# Altium schematic symbol library MyLib.SchLib: 4 symbols
Pins are listed as number, name and electrical type; pins without a type are passive.

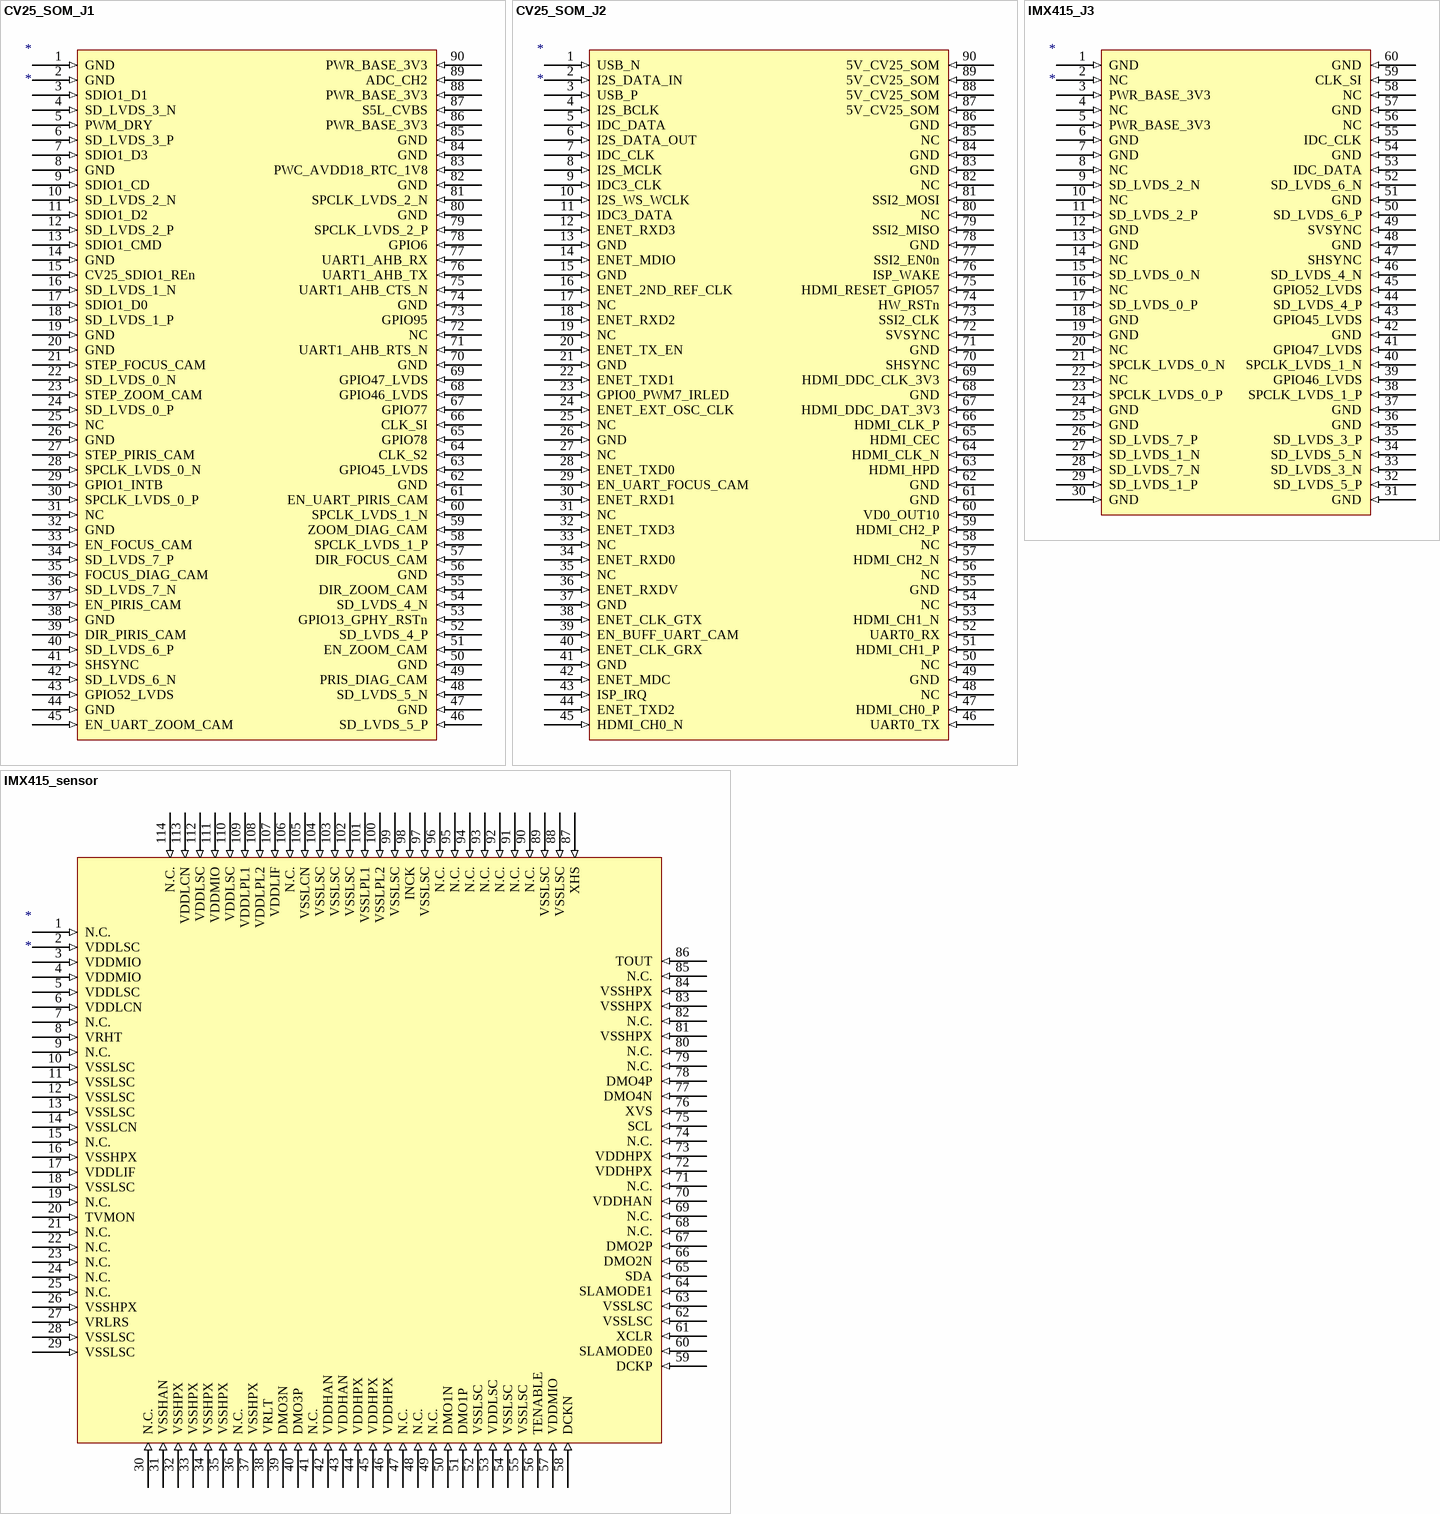
[diagram p0: symbols CV25_SOM_J1 to IMX415_sensor]

## CV25_SOM_J1
designator *
footprint HIROSE_DF40C-90DS-0.4V(51)
pins: 1 GND (in), 2 GND (in), 3 SDIO1_D1 (in), 4 SD_LVDS_3_N (in), 5 PWM_DRY (in), 6 SD_LVDS_3_P (in), 7 SDIO1_D3 (in), 8 GND (in), 9 SDIO1_CD (in), 10 SD_LVDS_2_N (in), 11 SDIO1_D2 (in), 12 SD_LVDS_2_P (in), 13 SDIO1_CMD (in), 14 GND (in), 15 CV25_SDIO1_REn (in), 16 SD_LVDS_1_N (in), 17 SDIO1_D0 (in), 18 SD_LVDS_1_P (in), 19 GND (in), 20 GND (in), 21 STEP_FOCUS_CAM (in), 22 SD_LVDS_0_N (in), 23 STEP_ZOOM_CAM (in), 24 SD_LVDS_0_P (in), 25 NC (in), 26 GND (in), 27 STEP_PIRIS_CAM (in), 28 SPCLK_LVDS_0_N (in), 29 GPIO1_INTB (in), 30 SPCLK_LVDS_0_P (in), 31 NC (in), 32 GND (in), 33 EN_FOCUS_CAM (in), 34 SD_LVDS_7_P (in), 35 FOCUS_DIAG_CAM (in), 36 SD_LVDS_7_N (in), 37 EN_PIRIS_CAM (in), 38 GND (in), 39 DIR_PIRIS_CAM (in), 40 SD_LVDS_6_P (in), 41 SHSYNC (in), 42 SD_LVDS_6_N (in), 43 GPIO52_LVDS (in), 44 GND (in), 45 EN_UART_ZOOM_CAM (in), 46 SD_LVDS_5_P (in), 47 GND (in), 48 SD_LVDS_5_N (in), 49 PRIS_DIAG_CAM (in), 50 GND (in), 51 EN_ZOOM_CAM (in), 52 SD_LVDS_4_P (in), 53 GPIO13_GPHY_RSTn (in), 54 SD_LVDS_4_N (in), 55 DIR_ZOOM_CAM (in), 56 GND (in), 57 DIR_FOCUS_CAM (in), 58 SPCLK_LVDS_1_P (in), 59 ZOOM_DIAG_CAM (in), 60 SPCLK_LVDS_1_N (in), 61 EN_UART_PIRIS_CAM (in), 62 GND (in), 63 GPIO45_LVDS (in), 64 CLK_S2 (in), 65 GPIO78 (in), 66 CLK_SI (in), 67 GPIO77 (in), 68 GPIO46_LVDS (in), 69 GPIO47_LVDS (in), 70 GND (in), 71 UART1_AHB_RTS_N (in), 72 NC (in), 73 GPIO95 (in), 74 GND (in), 75 UART1_AHB_CTS_N (in), 76 UART1_AHB_TX (in), 77 UART1_AHB_RX (in), 78 GPIO6 (in), 79 SPCLK_LVDS_2_P (in), 80 GND (in), 81 SPCLK_LVDS_2_N (in), 82 GND (in), 83 PWC_AVDD18_RTC_1V8 (in), 84 GND (in), 85 GND (in), 86 PWR_BASE_3V3 (in), 87 S5L_CVBS (in), 88 PWR_BASE_3V3 (in), 89 ADC_CH2 (in), 90 PWR_BASE_3V3 (in)

## CV25_SOM_J2
designator *
footprint HIROSE_DF40C-90DS-0.4V(51)
pins: 1 USB_N (in), 2 I2S_DATA_IN (in), 3 USB_P (in), 4 I2S_BCLK (in), 5 IDC_DATA (in), 6 I2S_DATA_OUT (in), 7 IDC_CLK (in), 8 I2S_MCLK (in), 9 IDC3_CLK (in), 10 I2S_WS_WCLK (in), 11 IDC3_DATA (in), 12 ENET_RXD3 (in), 13 GND (in), 14 ENET_MDIO (in), 15 GND (in), 16 ENET_2ND_REF_CLK (in), 17 NC (in), 18 ENET_RXD2 (in), 19 NC (in), 20 ENET_TX_EN (in), 21 GND (in), 22 ENET_TXD1 (in), 23 GPIO0_PWM7_IRLED (in), 24 ENET_EXT_OSC_CLK (in), 25 NC (in), 26 GND (in), 27 NC (in), 28 ENET_TXD0 (in), 29 EN_UART_FOCUS_CAM (in), 30 ENET_RXD1 (in), 31 NC (in), 32 ENET_TXD3 (in), 33 NC (in), 34 ENET_RXD0 (in), 35 NC (in), 36 ENET_RXDV (in), 37 GND (in), 38 ENET_CLK_GTX (in), 39 EN_BUFF_UART_CAM (in), 40 ENET_CLK_GRX (in), 41 GND (in), 42 ENET_MDC (in), 43 ISP_IRQ (in), 44 ENET_TXD2 (in), 45 HDMI_CH0_N (in), 46 UART0_TX (in), 47 HDMI_CH0_P (in), 48 NC (in), 49 GND (in), 50 NC (in), 51 HDMI_CH1_P (in), 52 UART0_RX (in), 53 HDMI_CH1_N (in), 54 NC (in), 55 GND (in), 56 NC (in), 57 HDMI_CH2_N (in), 58 NC (in), 59 HDMI_CH2_P (in), 60 VD0_OUT10 (in), 61 GND (in), 62 GND (in), 63 HDMI_HPD (in), 64 HDMI_CLK_N (in), 65 HDMI_CEC (in), 66 HDMI_CLK_P (in), 67 HDMI_DDC_DAT_3V3 (in), 68 GND (in), 69 HDMI_DDC_CLK_3V3 (in), 70 SHSYNC (in), 71 GND (in), 72 SVSYNC (in), 73 SSI2_CLK (in), 74 HW_RSTn (in), 75 HDMI_RESET_GPIO57 (in), 76 ISP_WAKE (in), 77 SSI2_EN0n (in), 78 GND (in), 79 SSI2_MISO (in), 80 NC (in), 81 SSI2_MOSI (in), 82 NC (in), 83 GND (in), 84 GND (in), 85 NC (in), 86 GND (in), 87 5V_CV25_SOM (in), 88 5V_CV25_SOM (in), 89 5V_CV25_SOM (in), 90 5V_CV25_SOM (in)

## IMX415_J3
designator *
footprint HRS_DF40HC(4.0)-60DS-0.4V(51)
pins: 1 GND (in), 2 NC (in), 3 PWR_BASE_3V3 (in), 4 NC (in), 5 PWR_BASE_3V3 (in), 6 GND (in), 7 GND (in), 8 NC (in), 9 SD_LVDS_2_N (in), 10 NC (in), 11 SD_LVDS_2_P (in), 12 GND (in), 13 GND (in), 14 NC (in), 15 SD_LVDS_0_N (in), 16 NC (in), 17 SD_LVDS_0_P (in), 18 GND (in), 19 GND (in), 20 NC (in), 21 SPCLK_LVDS_0_N (in), 22 NC (in), 23 SPCLK_LVDS_0_P (in), 24 GND (in), 25 GND (in), 26 SD_LVDS_7_P (in), 27 SD_LVDS_1_N (in), 28 SD_LVDS_7_N (in), 29 SD_LVDS_1_P (in), 30 GND (in), 31 GND (in), 32 SD_LVDS_5_P (in), 33 SD_LVDS_3_N (in), 34 SD_LVDS_5_N (in), 35 SD_LVDS_3_P (in), 36 GND (in), 37 GND (in), 38 SPCLK_LVDS_1_P (in), 39 GPIO46_LVDS (in), 40 SPCLK_LVDS_1_N (in), 41 GPIO47_LVDS (in), 42 GND (in), 43 GPIO45_LVDS (in), 44 SD_LVDS_4_P (in), 45 GPIO52_LVDS (in), 46 SD_LVDS_4_N (in), 47 SHSYNC (in), 48 GND (in), 49 SVSYNC (in), 50 SD_LVDS_6_P (in), 51 GND (in), 52 SD_LVDS_6_N (in), 53 IDC_DATA (in), 54 GND (in), 55 IDC_CLK (in), 56 NC (in), 57 GND (in), 58 NC (in), 59 CLK_SI (in), 60 GND (in)

## IMX415_sensor
designator *
footprint IMX415_sensor - duplicate
footprint IMX415_sensor - duplicate
pins: 1 N.C. (in), 2 VDDLSC (in), 3 VDDMIO (in), 4 VDDMIO (in), 5 VDDLSC (in), 6 VDDLCN (in), 7 N.C. (in), 8 VRHT (in), 9 N.C. (in), 10 VSSLSC (in), 11 VSSLSC (in), 12 VSSLSC (in), 13 VSSLSC (in), 14 VSSLCN (in), 15 N.C. (in), 16 VSSHPX (in), 17 VDDLIF (in), 18 VSSLSC (in), 19 N.C. (in), 20 TVMON (in), 21 N.C. (in), 22 N.C. (in), 23 N.C. (in), 24 N.C. (in), 25 N.C. (in), 26 VSSHPX (in), 27 VRLRS (in), 28 VSSLSC (in), 29 VSSLSC (in), 30 N.C. (in), 31 VSSHAN (in), 32 VSSHPX (in), 33 VSSHPX (in), 34 VSSHPX (in), 35 VSSHPX (in), 36 N.C. (in), 37 VSSHPX (in), 38 VRLT (in), 39 DMO3N (in), 40 DMO3P (in), 41 N.C. (in), 42 VDDHAN (in), 43 VDDHAN (in), 44 VDDHPX (in), 45 VDDHPX (in), 46 VDDHPX (in), 47 N.C. (in), 48 N.C. (in), 49 N.C. (in), 50 DMO1N (in), 51 DMO1P (in), 52 VSSLSC (in), 53 VDDLSC (in), 54 VSSLSC (in), 55 VSSLSC (in), 56 TENABLE (in), 57 VDDMIO (in), 58 DCKN (in), 59 DCKP (in), 60 SLAMODE0 (in), 61 XCLR (in), 62 VSSLSC (in), 63 VSSLSC (in), 64 SLAMODE1 (in), 65 SDA (in), 66 DMO2N (in), 67 DMO2P (in), 68 N.C. (in), 69 N.C. (in), 70 VDDHAN (in), 71 N.C. (in), 72 VDDHPX (in), 73 VDDHPX (in), 74 N.C. (in), 75 SCL (in), 76 XVS (in), 77 DMO4N (in), 78 DMO4P (in), 79 N.C. (in), 80 N.C. (in), 81 VSSHPX (in), 82 N.C. (in), 83 VSSHPX (in), 84 VSSHPX (in), 85 N.C. (in), 86 TOUT (in), 87 XHS (in), 88 VSSLSC (in), 89 VSSLSC (in), 90 N.C. (in), 91 N.C. (in), 92 N.C. (in), 93 N.C. (in), 94 N.C. (in), 95 N.C. (in), 96 N.C. (in), 97 VSSLSC (in), 98 INCK (in), 99 VSSLSC (in), 100 VSSLPL2 (in), 101 VSSLPL1 (in), 102 VSSLSC (in), 103 VSSLSC (in), 104 VSSLSC (in), 105 VSSLCN (in), 106 N.C. (in), 107 VDDLIF (in), 108 VDDLPL2 (in), 109 VDDLPL1 (in), 110 VDDLSC (in), 111 VDDMIO (in), 112 VDDLSC (in), 113 VDDLCN (in), 114 N.C. (in)